# Altium integrated library Analog Devices Temperature Sensors.IntLib: 271 symbols (part 13 of 14)
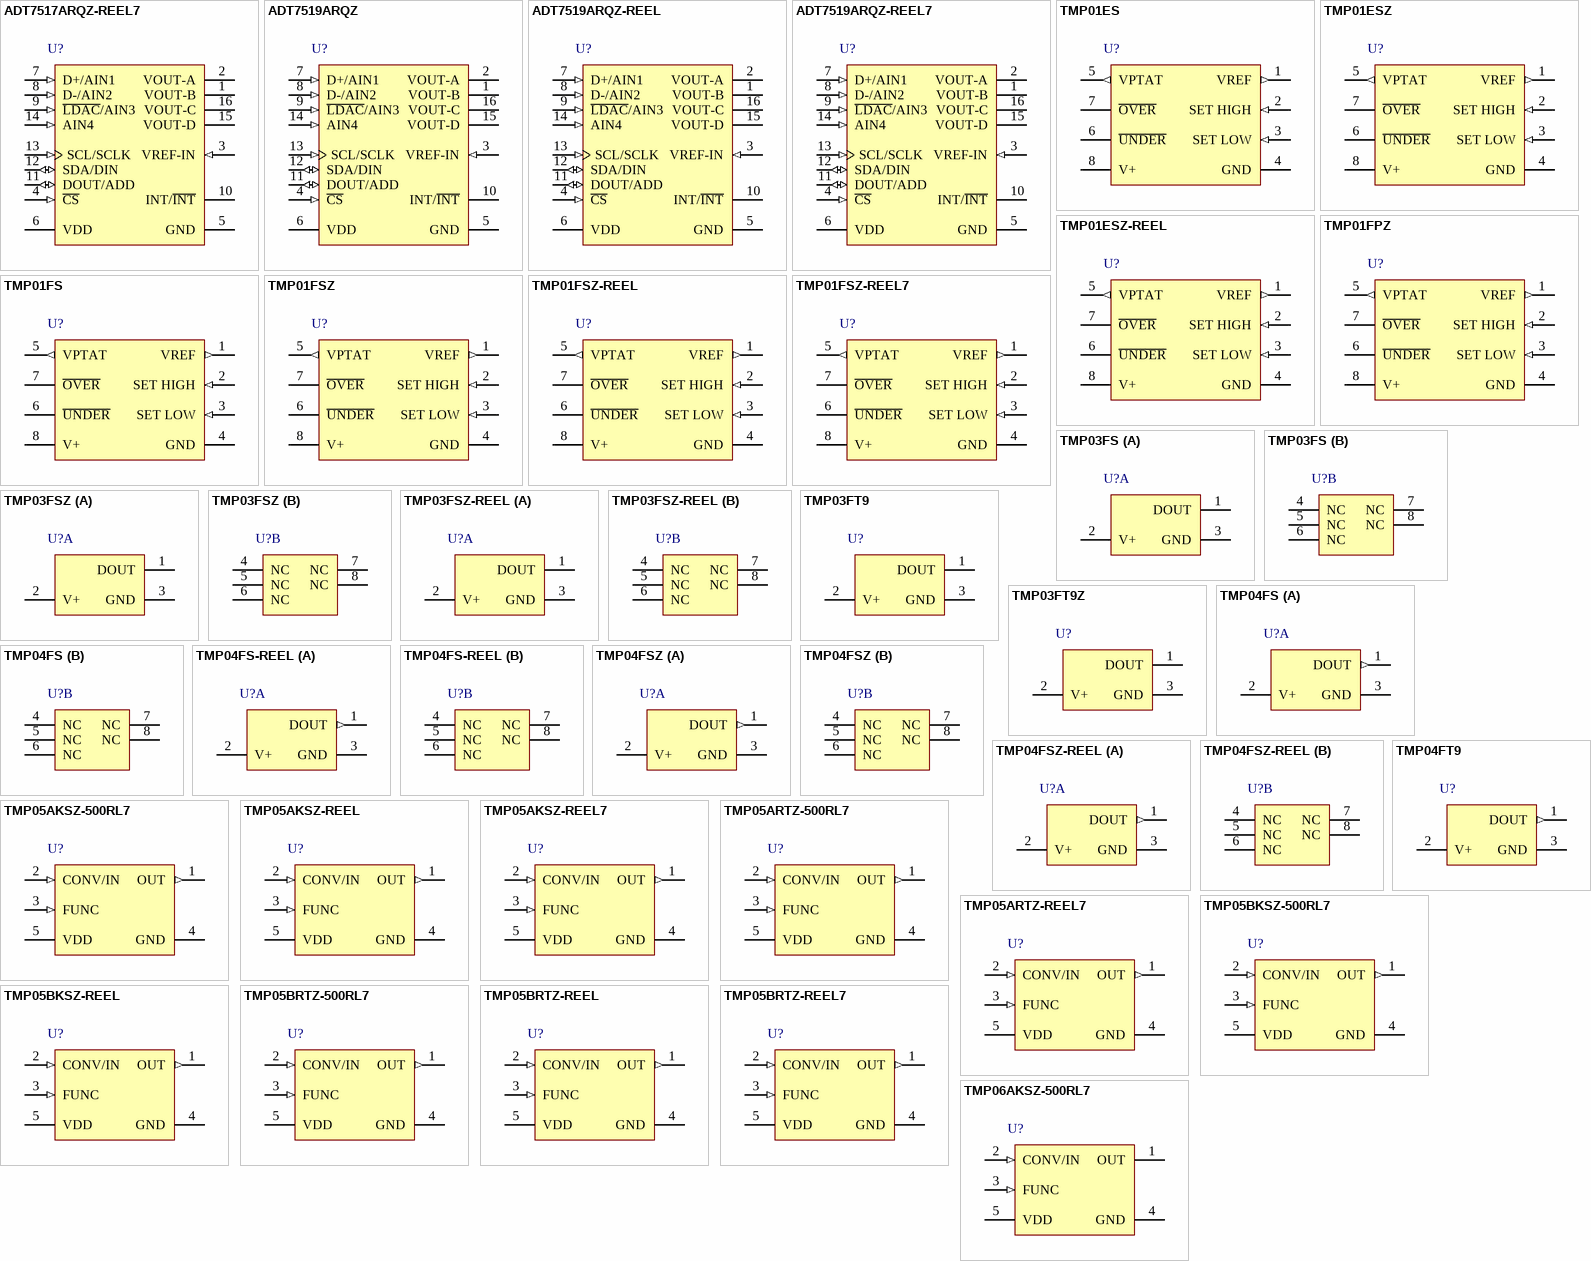
[diagram p19: symbols ADT7517ARQZ-REEL7 to TMP06AKSZ-500RL7]

## TMP04FT9
designator U?
Serial Digital Output Thermometers, 4.5 to 7 V Supply, Industrial, 3-pin TO92 (T-3), Tray; Manufacturer: Analog Devices; PartNumber: TMP04FT9; DatasheetVersion: Rev. A; PackageVersion: 042208-A, 04/2008; PackageReference: T-3; PackageDescription: 3-Pin Plastic Header-Style Package, 1.27 mm Pitch; Supplier 1: Digi-Key; Supplier Part Number 1: TMP04FT9-ND; Supplier 2: Mouser; Supplier Part Number 2: 584-TMP04FT9; Packing: Tray; Supply Voltage Range: 4.5 to 7 V; Mounting Technology: Through Hole; Code_JEDEC: TO-226-AA; ComponentLink1Description: Manufacturer URL; ComponentLink1URL: http://www.analog.com/en/index.html; ComponentLink2Description: Datasheet; ComponentLink2URL: http://www.analog.com/static/imported-files/data_sheets/TMP03_04.pdf; ComponentLink3Description: Package Specification; ComponentLink3URL: http://www.analog.com/static/imported-files/packages/PKG_PDF/TO-92(T)/T_3.pdf; ComponentLink4Description: Product URL; ComponentLink4URL: http://www.analog.com/en/mems-sensors/digital-temperature-sensors/tmp04/products/product.html
footprint ADI-T-3 (TO, Flat Index; 3 In-Line, Axial Leads; Body Dia. 5.1mm; Leads 0.48 x 0.48 mm (max))
pins: 1 DOUT (out), 2 V+ (power), 3 GND (power)

## TMP05AKSZ-500RL7
designator U?
+/-0.5 degrees C Accurate PWM Temperature Sensor, 3 to 5.5 V Supply, Industrial, 5-pin SOT23 (KS-5), Reel; Manufacturer: Analog Devices; PartNumber: TMP05AKSZ-500RL7; DatasheetVersion: Rev. C; PackageVersion: 072809-A, 07/2009; PackageReference: KS-5; PackageDescription: 5-Pin Thin Shrink Small Outline Transistor Package, Body 2 x 1.25 mm, Pitch 0.65 mm; Supplier 1: Digi-Key; Supplier Part Number 1: TMP05AKSZ-500RL7TR-ND; Supplier 2: Digi-Key; Supplier Part Number 2: TMP05AKSZ-500RL7CT-ND; Supplier 3: Digi-Key; Supplier Part Number 3: TMP05AKSZ-500RL7DKR-ND; Supplier 4: Farnell; Supplier Part Number 4: 1651315; Supplier 5: Farnell; Supplier Part Number 5: 1319536; Supplier 6: Newark; Supplier Part Number 6: 19M9012; Supplier 7: Mouser; Supplier Part Number 7: 584-TMP05AKSZ-500R7; Packing: Reel; Supply Voltage Range: 3 to 5.5 V; Mounting Technology: Surface Mount; Code_JEDEC: MO-203-AA; ComponentLink1Description: Manufacturer URL; ComponentLink1URL: http://www.analog.com/en/index.html; ComponentLink2Description: Datasheet; ComponentLink2URL: http://www.analog.com/static/imported-files/data_sheets/TMP05_06.pdf; ComponentLink3Description: Package Specification; ComponentLink3URL: http://www.analog.com/static/imported-files/packages/PKG_PDF/SC70(KS)/KS_5.pdf; ComponentLink4Description: Product URL; ComponentLink4URL: http://www.analog.com/en/mems-sensors/digital-temperature-sensors/tmp05/products/product.html
footprint ADI-KS-5_N (SOT23, 5-Leads, Body 2x1.25mm, Pitch 0.65mm, IPC Medium Density)
footprint ADI-KS-5_L (SOT23, 5-Leads, Body 2x1.25mm, Pitch 0.65mm, IPC High Density)
footprint ADI-KS-5_M (SOT23, 5-Leads, Body 2x1.25mm, Pitch 0.65mm, IPC Low Density)
pins: 1 OUT (out) "Digital Output. Pulse-width modulated (PWM) output gives a square wave whose ratio of high-to-low period is proportional to temperature.", 2 CONV/IN (in) "Digital Input. In continuously converting and one shot operating modes, a high, low, or float input determines the temperature measurement rate. In daisy-chain operating mode, this pin is the input pin for the PWM signal (See Datasheet)", 3 FUNC (in) "Digital Input. A high, low, or float input on this pin gives three different modes of operation. For details, see the Operating Modes section.", 4 GND (power) "Analog and Digital Ground.", 5 VDD (power) "Positive Supply Voltage, 3.0 V to 5.5 V. Using a decoupling capacitor of 0.1 µF as close as possible to this pin is strongly recommended."

## TMP05AKSZ-REEL
designator U?
+/-0.5 degrees C Accurate PWM Temperature Sensor, 3 to 5.5 V Supply, Industrial, 5-pin SOT23 (KS-5), Reel; Manufacturer: Analog Devices; PartNumber: TMP05AKSZ-REEL; DatasheetVersion: Rev. C; PackageVersion: 072809-A, 07/2009; PackageReference: KS-5; PackageDescription: 5-Pin Thin Shrink Small Outline Transistor Package, Body 2 x 1.25 mm, Pitch 0.65 mm; Supplier 1: Digi-Key; Supplier Part Number 1: TMP05AKSZ-REEL-ND; Supplier 2: Mouser; Supplier Part Number 2: 584-TMP05AKSZ-R; Packing: Reel; Supply Voltage Range: 3 to 5.5 V; Mounting Technology: Surface Mount; Code_JEDEC: MO-203-AA; ComponentLink1Description: Manufacturer URL; ComponentLink1URL: http://www.analog.com/en/index.html; ComponentLink2Description: Datasheet; ComponentLink2URL: http://www.analog.com/static/imported-files/data_sheets/TMP05_06.pdf; ComponentLink3Description: Package Specification; ComponentLink3URL: http://www.analog.com/static/imported-files/packages/PKG_PDF/SC70(KS)/KS_5.pdf; ComponentLink4Description: Product URL; ComponentLink4URL: http://www.analog.com/en/mems-sensors/digital-temperature-sensors/tmp05/products/product.html
footprint ADI-KS-5_N (SOT23, 5-Leads, Body 2x1.25mm, Pitch 0.65mm, IPC Medium Density)
footprint ADI-KS-5_L (SOT23, 5-Leads, Body 2x1.25mm, Pitch 0.65mm, IPC High Density)
footprint ADI-KS-5_M (SOT23, 5-Leads, Body 2x1.25mm, Pitch 0.65mm, IPC Low Density)
pins: 1 OUT (out) "Digital Output. Pulse-width modulated (PWM) output gives a square wave whose ratio of high-to-low period is proportional to temperature.", 2 CONV/IN (in) "Digital Input. In continuously converting and one shot operating modes, a high, low, or float input determines the temperature measurement rate. In daisy-chain operating mode, this pin is the input pin for the PWM signal (See Datasheet)", 3 FUNC (in) "Digital Input. A high, low, or float input on this pin gives three different modes of operation. For details, see the Operating Modes section.", 4 GND (power) "Analog and Digital Ground.", 5 VDD (power) "Positive Supply Voltage, 3.0 V to 5.5 V. Using a decoupling capacitor of 0.1 µF as close as possible to this pin is strongly recommended."

## TMP05AKSZ-REEL7
designator U?
+/-0.5 degrees C Accurate PWM Temperature Sensor, 3 to 5.5 V Supply, Industrial, 5-pin SOT23 (KS-5), Reel; Manufacturer: Analog Devices; PartNumber: TMP05AKSZ-REEL7; DatasheetVersion: Rev. C; PackageVersion: 072809-A, 07/2009; PackageReference: KS-5; PackageDescription: 5-Pin Thin Shrink Small Outline Transistor Package, Body 2 x 1.25 mm, Pitch 0.65 mm; Supplier 1: Digi-Key; Supplier Part Number 1: TMP05AKSZ-REEL7TR-ND; Supplier 2: Digi-Key; Supplier Part Number 2: TMP05AKSZ-REEL7CT-ND; Supplier 3: Digi-Key; Supplier Part Number 3: TMP05AKSZ-REEL7DKR-ND; Supplier 4: Mouser; Supplier Part Number 4: 584-TMP05AKSZ-R7; Packing: Reel; Supply Voltage Range: 3 to 5.5 V; Mounting Technology: Surface Mount; Code_JEDEC: MO-203-AA; ComponentLink1Description: Manufacturer URL; ComponentLink1URL: http://www.analog.com/en/index.html; ComponentLink2Description: Datasheet; ComponentLink2URL: http://www.analog.com/static/imported-files/data_sheets/TMP05_06.pdf; ComponentLink3Description: Package Specification; ComponentLink3URL: http://www.analog.com/static/imported-files/packages/PKG_PDF/SC70(KS)/KS_5.pdf; ComponentLink4Description: Product URL; ComponentLink4URL: http://www.analog.com/en/mems-sensors/digital-temperature-sensors/tmp05/products/product.html
footprint ADI-KS-5_N (SOT23, 5-Leads, Body 2x1.25mm, Pitch 0.65mm, IPC Medium Density)
footprint ADI-KS-5_L (SOT23, 5-Leads, Body 2x1.25mm, Pitch 0.65mm, IPC High Density)
footprint ADI-KS-5_M (SOT23, 5-Leads, Body 2x1.25mm, Pitch 0.65mm, IPC Low Density)
pins: 1 OUT (out) "Digital Output. Pulse-width modulated (PWM) output gives a square wave whose ratio of high-to-low period is proportional to temperature.", 2 CONV/IN (in) "Digital Input. In continuously converting and one shot operating modes, a high, low, or float input determines the temperature measurement rate. In daisy-chain operating mode, this pin is the input pin for the PWM signal (See Datasheet)", 3 FUNC (in) "Digital Input. A high, low, or float input on this pin gives three different modes of operation. For details, see the Operating Modes section.", 4 GND (power) "Analog and Digital Ground.", 5 VDD (power) "Positive Supply Voltage, 3.0 V to 5.5 V. Using a decoupling capacitor of 0.1 µF as close as possible to this pin is strongly recommended."

## TMP05ARTZ-500RL7
designator U?
+/-0.5 degrees C Accurate PWM Temperature Sensor, 3 to 5.5 V Supply, Industrial, 5-pin SOT23 (RJ-5), Reel; Manufacturer: Analog Devices; PartNumber: TMP05ARTZ-500RL7; DatasheetVersion: Rev. C; PackageVersion: 121608-A , 12/2008; PackageReference: RJ-5; PackageDescription: 5-Pin Small Outline Transistor Package, Body 2.9 x 1.6 mm, Pitch 0.95 mm; Supplier 1: Digi-Key; Supplier Part Number 1: TMP05ARTZ-500RL7TR-ND; Supplier 2: Digi-Key; Supplier Part Number 2: TMP05ARTZ-500RL7CT-ND; Supplier 3: Digi-Key; Supplier Part Number 3: TMP05ARTZ-500RL7DKR-ND; Supplier 4: Farnell; Supplier Part Number 4: 2377120; Supplier 5: Newark; Supplier Part Number 5: 23X9247; Supplier 6: Newark; Supplier Part Number 6: 59K9147; Supplier 7: Mouser; Supplier Part Number 7: 584-TMP05ARTZ-500R7; Packing: Reel; Supply Voltage Range: 3 to 5.5 V; Mounting Technology: Surface Mount; Code_JEDEC: MO-178-AA; ComponentLink1Description: Manufacturer URL; ComponentLink1URL: http://www.analog.com/en/index.html; ComponentLink2Description: Datasheet; ComponentLink2URL: http://www.analog.com/static/imported-files/data_sheets/TMP05_06.pdf; ComponentLink3Description: Package Specification; ComponentLink3URL: http://www.analog.com/static/imported-files/packages/PKG_PDF/SOT-23(RJ)/RJ_5.pdf; ComponentLink4Description: Product URL; ComponentLink4URL: http://www.analog.com/en/mems-sensors/digital-temperature-sensors/tmp05/products/product.html
footprint ADI-RJ-5_N (SOT-23, 5-Leads, Body 2.9x1.6mm, Pitch 0.95mm, IPC Medium Density)
footprint ADI-RJ-5_L (SOT-23, 5-Leads, Body 2.9x1.6mm, Pitch 0.95mm, IPC High Density)
footprint ADI-RJ-5_M (SOT-23, 5-Leads, Body 2.9x1.6mm, Pitch 0.95mm, IPC Low Density)
pins: 1 OUT (out) "Digital Output. Pulse-width modulated (PWM) output gives a square wave whose ratio of high-to-low period is proportional to temperature.", 2 CONV/IN (in) "Digital Input. In continuously converting and one shot operating modes, a high, low, or float input determines the temperature measurement rate. In daisy-chain operating mode, this pin is the input pin for the PWM signal (See Datasheet)", 3 FUNC (in) "Digital Input. A high, low, or float input on this pin gives three different modes of operation. For details, see the Operating Modes section.", 4 GND (power) "Analog and Digital Ground.", 5 VDD (power) "Positive Supply Voltage, 3.0 V to 5.5 V. Using a decoupling capacitor of 0.1 µF as close as possible to this pin is strongly recommended."

## TMP05ARTZ-REEL7
designator U?
+/-0.5 degrees C Accurate PWM Temperature Sensor, 3 to 5.5 V Supply, Industrial, 5-pin SOT23 (RJ-5), Reel; Manufacturer: Analog Devices; PartNumber: TMP05ARTZ-REEL7; DatasheetVersion: Rev. C; PackageVersion: 121608-A , 12/2008; PackageReference: RJ-5; PackageDescription: 5-Pin Small Outline Transistor Package, Body 2.9 x 1.6 mm, Pitch 0.95 mm; Supplier 1: Digi-Key; Supplier Part Number 1: TMP05ARTZ-REEL7TR-ND; Supplier 2: Digi-Key; Supplier Part Number 2: TMP05ARTZ-REEL7CT-ND; Supplier 3: Digi-Key; Supplier Part Number 3: TMP05ARTZ-REEL7DKR-ND; Supplier 4: Farnell; Supplier Part Number 4: 1536073; Supplier 5: Mouser; Supplier Part Number 5: 584-TMP05ARTZ-R7; Packing: Reel; Supply Voltage Range: 3 to 5.5 V; Mounting Technology: Surface Mount; Code_JEDEC: MO-178-AA; ComponentLink1Description: Manufacturer URL; ComponentLink1URL: http://www.analog.com/en/index.html; ComponentLink2Description: Datasheet; ComponentLink2URL: http://www.analog.com/static/imported-files/data_sheets/TMP05_06.pdf; ComponentLink3Description: Package Specification; ComponentLink3URL: http://www.analog.com/static/imported-files/packages/PKG_PDF/SOT-23(RJ)/RJ_5.pdf; ComponentLink4Description: Product URL; ComponentLink4URL: http://www.analog.com/en/mems-sensors/digital-temperature-sensors/tmp05/products/product.html
footprint ADI-RJ-5_N (SOT-23, 5-Leads, Body 2.9x1.6mm, Pitch 0.95mm, IPC Medium Density)
footprint ADI-RJ-5_L (SOT-23, 5-Leads, Body 2.9x1.6mm, Pitch 0.95mm, IPC High Density)
footprint ADI-RJ-5_M (SOT-23, 5-Leads, Body 2.9x1.6mm, Pitch 0.95mm, IPC Low Density)
pins: 1 OUT (out) "Digital Output. Pulse-width modulated (PWM) output gives a square wave whose ratio of high-to-low period is proportional to temperature.", 2 CONV/IN (in) "Digital Input. In continuously converting and one shot operating modes, a high, low, or float input determines the temperature measurement rate. In daisy-chain operating mode, this pin is the input pin for the PWM signal (See Datasheet)", 3 FUNC (in) "Digital Input. A high, low, or float input on this pin gives three different modes of operation. For details, see the Operating Modes section.", 4 GND (power) "Analog and Digital Ground.", 5 VDD (power) "Positive Supply Voltage, 3.0 V to 5.5 V. Using a decoupling capacitor of 0.1 µF as close as possible to this pin is strongly recommended."

## TMP05BKSZ-500RL7
designator U?
+/-0.5 degrees C Accurate PWM Temperature Sensor, 3 to 5.5 V Supply, Industrial, 5-pin SOT23 (KS-5), Reel; Manufacturer: Analog Devices; PartNumber: TMP05BKSZ-500RL7; DatasheetVersion: Rev. C; PackageVersion: 072809-A, 07/2009; PackageReference: KS-5; PackageDescription: 5-Pin Thin Shrink Small Outline Transistor Package, Body 2 x 1.25 mm, Pitch 0.65 mm; Supplier 1: Digi-Key; Supplier Part Number 1: TMP05BKSZ-500RL7TR-ND; Supplier 2: Digi-Key; Supplier Part Number 2: TMP05BKSZ-500RL7CT-ND; Supplier 3: Digi-Key; Supplier Part Number 3: TMP05BKSZ-500RL7DKR-ND; Supplier 4: Farnell; Supplier Part Number 4: 1571459; Supplier 5: Newark; Supplier Part Number 5: 59K9153; Supplier 6: Mouser; Supplier Part Number 6: 584-TMP05BKSZ-500R7; Packing: Reel; Supply Voltage Range: 3 to 5.5 V; Mounting Technology: Surface Mount; Code_JEDEC: MO-203-AA; ComponentLink1Description: Manufacturer URL; ComponentLink1URL: http://www.analog.com/en/index.html; ComponentLink2Description: Datasheet; ComponentLink2URL: http://www.analog.com/static/imported-files/data_sheets/TMP05_06.pdf; ComponentLink3Description: Package Specification; ComponentLink3URL: http://www.analog.com/static/imported-files/packages/PKG_PDF/SC70(KS)/KS_5.pdf; ComponentLink4Description: Product URL; ComponentLink4URL: http://www.analog.com/en/mems-sensors/digital-temperature-sensors/tmp05/products/product.html
footprint ADI-KS-5_N (SOT23, 5-Leads, Body 2x1.25mm, Pitch 0.65mm, IPC Medium Density)
footprint ADI-KS-5_L (SOT23, 5-Leads, Body 2x1.25mm, Pitch 0.65mm, IPC High Density)
footprint ADI-KS-5_M (SOT23, 5-Leads, Body 2x1.25mm, Pitch 0.65mm, IPC Low Density)
pins: 1 OUT (out) "Digital Output. Pulse-width modulated (PWM) output gives a square wave whose ratio of high-to-low period is proportional to temperature.", 2 CONV/IN (in) "Digital Input. In continuously converting and one shot operating modes, a high, low, or float input determines the temperature measurement rate. In daisy-chain operating mode, this pin is the input pin for the PWM signal (See Datasheet)", 3 FUNC (in) "Digital Input. A high, low, or float input on this pin gives three different modes of operation. For details, see the Operating Modes section.", 4 GND (power) "Analog and Digital Ground.", 5 VDD (power) "Positive Supply Voltage, 3.0 V to 5.5 V. Using a decoupling capacitor of 0.1 µF as close as possible to this pin is strongly recommended."

## TMP05BKSZ-REEL
designator U?
+/-0.5 degrees C Accurate PWM Temperature Sensor, 3 to 5.5 V Supply, Industrial, 5-pin SOT23 (KS-5), Reel; Manufacturer: Analog Devices; PartNumber: TMP05BKSZ-REEL; DatasheetVersion: Rev. C; PackageVersion: 072809-A, 07/2009; PackageReference: KS-5; PackageDescription: 5-Pin Thin Shrink Small Outline Transistor Package, Body 2 x 1.25 mm, Pitch 0.65 mm; Supplier 1: Digi-Key; Supplier Part Number 1: TMP05BKSZ-REEL-ND; Supplier 2: Mouser; Supplier Part Number 2: 584-TMP05BKSZ-R; Packing: Reel; Supply Voltage Range: 3 to 5.5 V; Mounting Technology: Surface Mount; Code_JEDEC: MO-203-AA; ComponentLink1Description: Manufacturer URL; ComponentLink1URL: http://www.analog.com/en/index.html; ComponentLink2Description: Datasheet; ComponentLink2URL: http://www.analog.com/static/imported-files/data_sheets/TMP05_06.pdf; ComponentLink3Description: Package Specification; ComponentLink3URL: http://www.analog.com/static/imported-files/packages/PKG_PDF/SC70(KS)/KS_5.pdf; ComponentLink4Description: Product URL; ComponentLink4URL: http://www.analog.com/en/mems-sensors/digital-temperature-sensors/tmp05/products/product.html
footprint ADI-KS-5_N (SOT23, 5-Leads, Body 2x1.25mm, Pitch 0.65mm, IPC Medium Density)
footprint ADI-KS-5_L (SOT23, 5-Leads, Body 2x1.25mm, Pitch 0.65mm, IPC High Density)
footprint ADI-KS-5_M (SOT23, 5-Leads, Body 2x1.25mm, Pitch 0.65mm, IPC Low Density)
pins: 1 OUT (out) "Digital Output. Pulse-width modulated (PWM) output gives a square wave whose ratio of high-to-low period is proportional to temperature.", 2 CONV/IN (in) "Digital Input. In continuously converting and one shot operating modes, a high, low, or float input determines the temperature measurement rate. In daisy-chain operating mode, this pin is the input pin for the PWM signal (See Datasheet)", 3 FUNC (in) "Digital Input. A high, low, or float input on this pin gives three different modes of operation. For details, see the Operating Modes section.", 4 GND (power) "Analog and Digital Ground.", 5 VDD (power) "Positive Supply Voltage, 3.0 V to 5.5 V. Using a decoupling capacitor of 0.1 µF as close as possible to this pin is strongly recommended."

## TMP05BRTZ-500RL7
designator U?
+/-0.5 degrees C Accurate PWM Temperature Sensor, 3 to 5.5 V Supply, Industrial, 5-pin SOT23 (RJ-5), Reel; Manufacturer: Analog Devices; PartNumber: TMP05BRTZ-500RL7; DatasheetVersion: Rev. C; PackageVersion: 121608-A , 12/2008; PackageReference: RJ-5; PackageDescription: 5-Pin Small Outline Transistor Package, Body 2.9 x 1.6 mm, Pitch 0.95 mm; Supplier 1: Digi-Key; Supplier Part Number 1: TMP05BRTZ-500RL7TR-ND; Supplier 2: Digi-Key; Supplier Part Number 2: TMP05BRTZ-500RL7CT-ND; Supplier 3: Digi-Key; Supplier Part Number 3: TMP05BRTZ-500RL7DKR-ND; Supplier 4: Farnell; Supplier Part Number 4: 1651317; Supplier 5: Farnell; Supplier Part Number 5: 1319537; Supplier 6: Newark; Supplier Part Number 6: 19M9013; Supplier 7: Newark; Supplier Part Number 7: 59K9159; Supplier 8: Mouser; Supplier Part Number 8: 584-TMP05BRTZ-500R7; Packing: Reel; Supply Voltage Range: 3 to 5.5 V; Mounting Technology: Surface Mount; Code_JEDEC: MO-178-AA; ComponentLink1Description: Manufacturer URL; ComponentLink1URL: http://www.analog.com/en/index.html; ComponentLink2Description: Datasheet; ComponentLink2URL: http://www.analog.com/static/imported-files/data_sheets/TMP05_06.pdf; ComponentLink3Description: Package Specification; ComponentLink3URL: http://www.analog.com/static/imported-files/packages/PKG_PDF/SOT-23(RJ)/RJ_5.pdf; ComponentLink4Description: Product URL; ComponentLink4URL: http://www.analog.com/en/mems-sensors/digital-temperature-sensors/tmp05/products/product.html
footprint ADI-RJ-5_N (SOT-23, 5-Leads, Body 2.9x1.6mm, Pitch 0.95mm, IPC Medium Density)
footprint ADI-RJ-5_L (SOT-23, 5-Leads, Body 2.9x1.6mm, Pitch 0.95mm, IPC High Density)
footprint ADI-RJ-5_M (SOT-23, 5-Leads, Body 2.9x1.6mm, Pitch 0.95mm, IPC Low Density)
pins: 1 OUT (out) "Digital Output. Pulse-width modulated (PWM) output gives a square wave whose ratio of high-to-low period is proportional to temperature.", 2 CONV/IN (in) "Digital Input. In continuously converting and one shot operating modes, a high, low, or float input determines the temperature measurement rate. In daisy-chain operating mode, this pin is the input pin for the PWM signal (See Datasheet)", 3 FUNC (in) "Digital Input. A high, low, or float input on this pin gives three different modes of operation. For details, see the Operating Modes section.", 4 GND (power) "Analog and Digital Ground.", 5 VDD (power) "Positive Supply Voltage, 3.0 V to 5.5 V. Using a decoupling capacitor of 0.1 µF as close as possible to this pin is strongly recommended."

## TMP05BRTZ-REEL
designator U?
+/-0.5 degrees C Accurate PWM Temperature Sensor, 3 to 5.5 V Supply, Industrial, 5-pin SOT23 (RJ-5), Reel; Manufacturer: Analog Devices; PartNumber: TMP05BRTZ-REEL; DatasheetVersion: Rev. C; PackageVersion: 121608-A , 12/2008; PackageReference: RJ-5; PackageDescription: 5-Pin Small Outline Transistor Package, Body 2.9 x 1.6 mm, Pitch 0.95 mm; Supplier 1: Digi-Key; Supplier Part Number 1: TMP05BRTZ-REEL-ND; Supplier 2: Mouser; Supplier Part Number 2: 584-TMP05BRTZ-R; Packing: Reel; Supply Voltage Range: 3 to 5.5 V; Mounting Technology: Surface Mount; Code_JEDEC: MO-178-AA; ComponentLink1Description: Manufacturer URL; ComponentLink1URL: http://www.analog.com/en/index.html; ComponentLink2Description: Datasheet; ComponentLink2URL: http://www.analog.com/static/imported-files/data_sheets/TMP05_06.pdf; ComponentLink3Description: Package Specification; ComponentLink3URL: http://www.analog.com/static/imported-files/packages/PKG_PDF/SOT-23(RJ)/RJ_5.pdf; ComponentLink4Description: Product URL; ComponentLink4URL: http://www.analog.com/en/mems-sensors/digital-temperature-sensors/tmp05/products/product.html
footprint ADI-RJ-5_N (SOT-23, 5-Leads, Body 2.9x1.6mm, Pitch 0.95mm, IPC Medium Density)
footprint ADI-RJ-5_L (SOT-23, 5-Leads, Body 2.9x1.6mm, Pitch 0.95mm, IPC High Density)
footprint ADI-RJ-5_M (SOT-23, 5-Leads, Body 2.9x1.6mm, Pitch 0.95mm, IPC Low Density)
pins: 1 OUT (out) "Digital Output. Pulse-width modulated (PWM) output gives a square wave whose ratio of high-to-low period is proportional to temperature.", 2 CONV/IN (in) "Digital Input. In continuously converting and one shot operating modes, a high, low, or float input determines the temperature measurement rate. In daisy-chain operating mode, this pin is the input pin for the PWM signal (See Datasheet)", 3 FUNC (in) "Digital Input. A high, low, or float input on this pin gives three different modes of operation. For details, see the Operating Modes section.", 4 GND (power) "Analog and Digital Ground.", 5 VDD (power) "Positive Supply Voltage, 3.0 V to 5.5 V. Using a decoupling capacitor of 0.1 µF as close as possible to this pin is strongly recommended."

## TMP05BRTZ-REEL7
designator U?
+/-0.5 degrees C Accurate PWM Temperature Sensor, 3 to 5.5 V Supply, Industrial, 5-pin SOT23 (RJ-5), Reel; Manufacturer: Analog Devices; PartNumber: TMP05BRTZ-REEL7; DatasheetVersion: Rev. C; PackageVersion: 121608-A , 12/2008; PackageReference: RJ-5; PackageDescription: 5-Pin Small Outline Transistor Package, Body 2.9 x 1.6 mm, Pitch 0.95 mm; Supplier 1: Digi-Key; Supplier Part Number 1: TMP05BRTZ-REEL7TR-ND; Supplier 2: Digi-Key; Supplier Part Number 2: TMP05BRTZ-REEL7CT-ND; Supplier 3: Digi-Key; Supplier Part Number 3: TMP05BRTZ-REEL7DKR-ND; Supplier 4: Newark; Supplier Part Number 4: 59K9158; Supplier 5: Mouser; Supplier Part Number 5: 584-TMP05BRTZ-R7; Packing: Reel; Supply Voltage Range: 3 to 5.5 V; Mounting Technology: Surface Mount; Code_JEDEC: MO-178-AA; ComponentLink1Description: Manufacturer URL; ComponentLink1URL: http://www.analog.com/en/index.html; ComponentLink2Description: Datasheet; ComponentLink2URL: http://www.analog.com/static/imported-files/data_sheets/TMP05_06.pdf; ComponentLink3Description: Package Specification; ComponentLink3URL: http://www.analog.com/static/imported-files/packages/PKG_PDF/SOT-23(RJ)/RJ_5.pdf; ComponentLink4Description: Product URL; ComponentLink4URL: http://www.analog.com/en/mems-sensors/digital-temperature-sensors/tmp05/products/product.html
footprint ADI-RJ-5_N (SOT-23, 5-Leads, Body 2.9x1.6mm, Pitch 0.95mm, IPC Medium Density)
footprint ADI-RJ-5_L (SOT-23, 5-Leads, Body 2.9x1.6mm, Pitch 0.95mm, IPC High Density)
footprint ADI-RJ-5_M (SOT-23, 5-Leads, Body 2.9x1.6mm, Pitch 0.95mm, IPC Low Density)
pins: 1 OUT (out) "Digital Output. Pulse-width modulated (PWM) output gives a square wave whose ratio of high-to-low period is proportional to temperature.", 2 CONV/IN (in) "Digital Input. In continuously converting and one shot operating modes, a high, low, or float input determines the temperature measurement rate. In daisy-chain operating mode, this pin is the input pin for the PWM signal (See Datasheet)", 3 FUNC (in) "Digital Input. A high, low, or float input on this pin gives three different modes of operation. For details, see the Operating Modes section.", 4 GND (power) "Analog and Digital Ground.", 5 VDD (power) "Positive Supply Voltage, 3.0 V to 5.5 V. Using a decoupling capacitor of 0.1 µF as close as possible to this pin is strongly recommended."

## TMP06AKSZ-500RL7
designator U?
+/-0.5 degrees C Accurate PWM Temperature Sensor, 3 to 5.5 V Supply, Industrial, 5-pin SOT23 (KS-5), Reel; Manufacturer: Analog Devices; PartNumber: TMP06AKSZ-500RL7; DatasheetVersion: Rev. C; PackageVersion: 072809-A, 07/2009; PackageReference: KS-5; PackageDescription: 5-Pin Thin Shrink Small Outline Transistor Package, Body 2 x 1.25 mm, Pitch 0.65 mm; Supplier 1: Digi-Key; Supplier Part Number 1: TMP06AKSZ-500RL7TR-ND; Supplier 2: Digi-Key; Supplier Part Number 2: TMP06AKSZ-500RL7CT-ND; Supplier 3: Digi-Key; Supplier Part Number 3: TMP06AKSZ-500RL7DKR-ND; Supplier 4: Newark; Supplier Part Number 4: 59K9165; Supplier 5: Mouser; Supplier Part Number 5: 584-TMP06AKSZ-500R7; Packing: Reel; Supply Voltage Range: 3 to 5.5 V; Mounting Technology: Surface Mount; Code_JEDEC: MO-203-AA; ComponentLink1Description: Manufacturer URL; ComponentLink1URL: http://www.analog.com/en/index.html; ComponentLink2Description: Datasheet; ComponentLink2URL: http://www.analog.com/static/imported-files/data_sheets/TMP05_06.pdf; ComponentLink3Description: Package Specification; ComponentLink3URL: http://www.analog.com/static/imported-files/packages/PKG_PDF/SC70(KS)/KS_5.pdf; ComponentLink4Description: Product URL; ComponentLink4URL: http://www.analog.com/en/mems-sensors/digital-temperature-sensors/tmp06/products/product.html
footprint ADI-KS-5_N (SOT23, 5-Leads, Body 2x1.25mm, Pitch 0.65mm, IPC Medium Density)
footprint ADI-KS-5_L (SOT23, 5-Leads, Body 2x1.25mm, Pitch 0.65mm, IPC High Density)
footprint ADI-KS-5_M (SOT23, 5-Leads, Body 2x1.25mm, Pitch 0.65mm, IPC Low Density)
pins: 1 OUT (oc) "Digital Output. Pulse-width modulated (PWM) output gives a square wave whose ratio of high-to-low period is proportional to temperature.", 2 CONV/IN (in) "Digital Input. In continuously converting and one shot operating modes, a high, low, or float input determines the temperature measurement rate. In daisy-chain operating mode, this pin is the input pin for the PWM signal (See Datasheet)", 3 FUNC (in) "Digital Input. A high, low, or float input on this pin gives three different modes of operation. For details, see the Operating Modes section.", 4 GND (power) "Analog and Digital Ground.", 5 VDD (power) "Positive Supply Voltage, 3.0 V to 5.5 V. Using a decoupling capacitor of 0.1 µF as close as possible to this pin is strongly recommended."

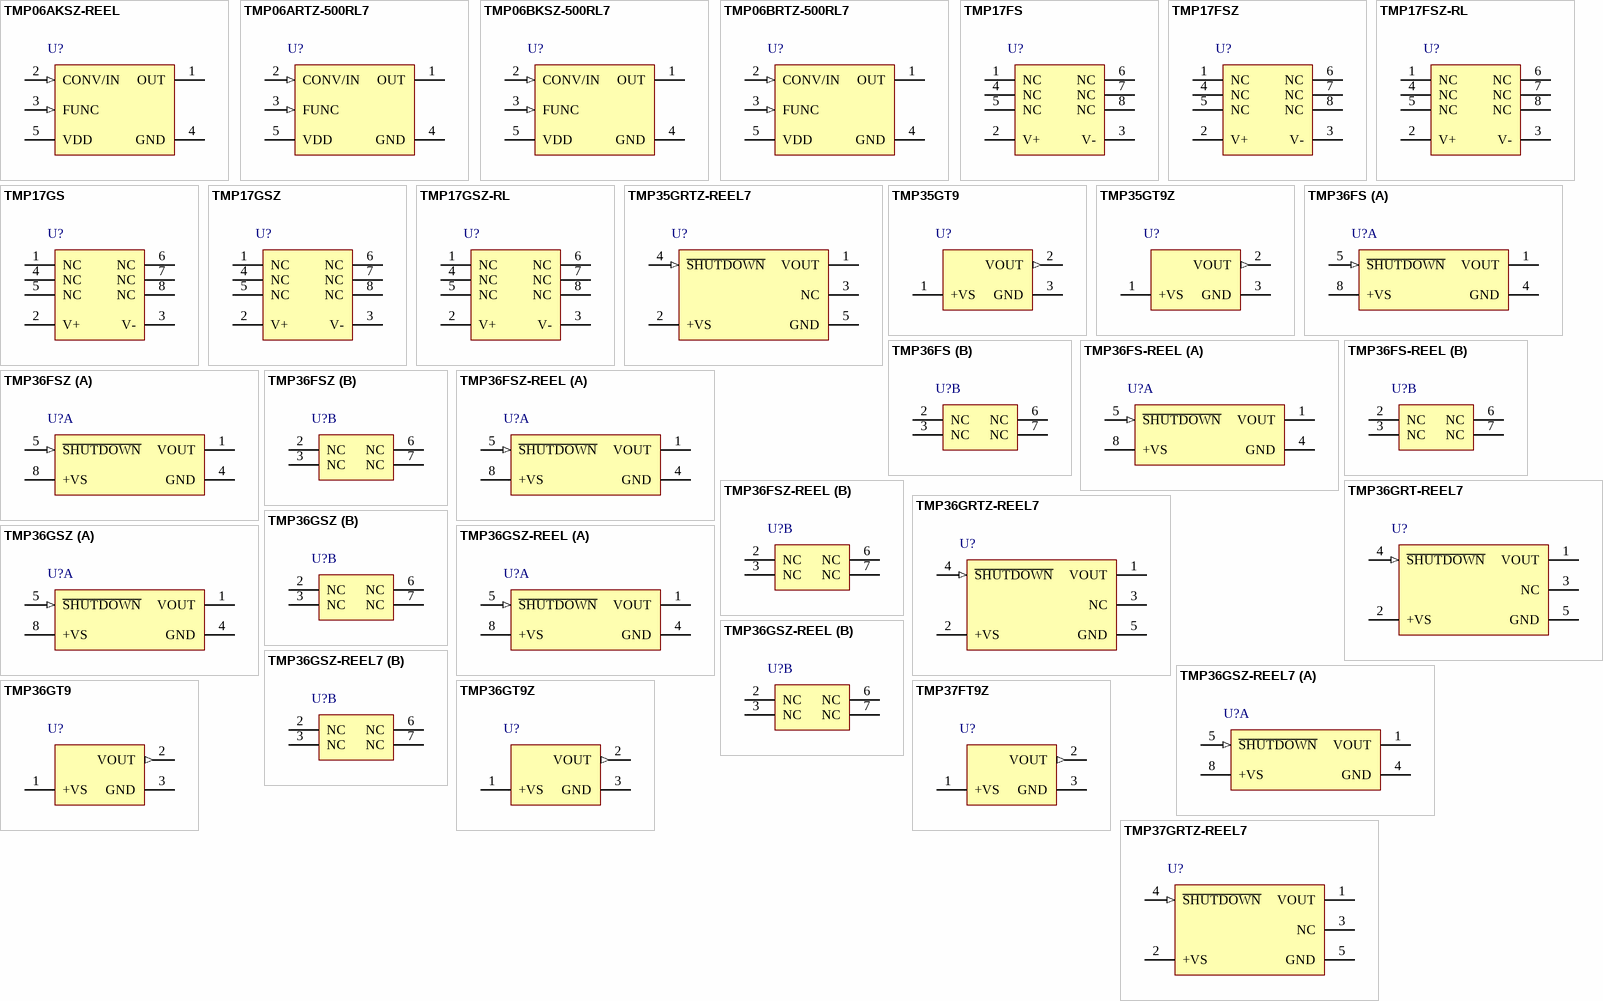
[diagram p7: symbols TMP06AKSZ-REEL to TMP37GRTZ-REEL7]

## TMP06AKSZ-REEL
designator U?
+/-0.5 degrees C Accurate PWM Temperature Sensor, 3 to 5.5 V Supply, Industrial, 5-pin SOT23 (KS-5), Reel; Manufacturer: Analog Devices; PartNumber: TMP06AKSZ-REEL; DatasheetVersion: Rev. C; PackageVersion: 072809-A, 07/2009; PackageReference: KS-5; PackageDescription: 5-Pin Thin Shrink Small Outline Transistor Package, Body 2 x 1.25 mm, Pitch 0.65 mm; Supplier 1: Digi-Key; Supplier Part Number 1: TMP06AKSZ-REEL-ND; Supplier 2: Newark; Supplier Part Number 2: 59K9163; Supplier 3: Mouser; Supplier Part Number 3: 584-TMP06AKSZ-R; Packing: Reel; Supply Voltage Range: 3 to 5.5 V; Mounting Technology: Surface Mount; Code_JEDEC: MO-203-AA; ComponentLink1Description: Manufacturer URL; ComponentLink1URL: http://www.analog.com/en/index.html; ComponentLink2Description: Datasheet; ComponentLink2URL: http://www.analog.com/static/imported-files/data_sheets/TMP05_06.pdf; ComponentLink3Description: Package Specification; ComponentLink3URL: http://www.analog.com/static/imported-files/packages/PKG_PDF/SC70(KS)/KS_5.pdf; ComponentLink4Description: Product URL; ComponentLink4URL: http://www.analog.com/en/mems-sensors/digital-temperature-sensors/tmp06/products/product.html
footprint ADI-KS-5_N (SOT23, 5-Leads, Body 2x1.25mm, Pitch 0.65mm, IPC Medium Density)
footprint ADI-KS-5_L (SOT23, 5-Leads, Body 2x1.25mm, Pitch 0.65mm, IPC High Density)
footprint ADI-KS-5_M (SOT23, 5-Leads, Body 2x1.25mm, Pitch 0.65mm, IPC Low Density)
pins: 1 OUT (oc) "Digital Output. Pulse-width modulated (PWM) output gives a square wave whose ratio of high-to-low period is proportional to temperature.", 2 CONV/IN (in) "Digital Input. In continuously converting and one shot operating modes, a high, low, or float input determines the temperature measurement rate. In daisy-chain operating mode, this pin is the input pin for the PWM signal (See Datasheet)", 3 FUNC (in) "Digital Input. A high, low, or float input on this pin gives three different modes of operation. For details, see the Operating Modes section.", 4 GND (power) "Analog and Digital Ground.", 5 VDD (power) "Positive Supply Voltage, 3.0 V to 5.5 V. Using a decoupling capacitor of 0.1 µF as close as possible to this pin is strongly recommended."

## TMP06ARTZ-500RL7
designator U?
+/-0.5 degrees C Accurate PWM Temperature Sensor, 3 to 5.5 V Supply, Industrial, 5-pin SOT23 (RJ-5), Reel; Manufacturer: Analog Devices; PartNumber: TMP06ARTZ-500RL7; DatasheetVersion: Rev. C; PackageVersion: 121608-A , 12/2008; PackageReference: RJ-5; PackageDescription: 5-Pin Small Outline Transistor Package, Body 2.9 x 1.6 mm, Pitch 0.95 mm; Supplier 1: Digi-Key; Supplier Part Number 1: TMP06ARTZ-500RL7TR-ND; Supplier 2: Digi-Key; Supplier Part Number 2: TMP06ARTZ-500RL7CT-ND; Supplier 3: Digi-Key; Supplier Part Number 3: TMP06ARTZ-500RL7DKR-ND; Supplier 4: Mouser; Supplier Part Number 4: 584-TMP06ARTZ-500R7; Packing: Reel; Supply Voltage Range: 3 to 5.5 V; Mounting Technology: Surface Mount; Code_JEDEC: MO-178-AA; ComponentLink1Description: Manufacturer URL; ComponentLink1URL: http://www.analog.com/en/index.html; ComponentLink2Description: Datasheet; ComponentLink2URL: http://www.analog.com/static/imported-files/data_sheets/TMP05_06.pdf; ComponentLink3Description: Package Specification; ComponentLink3URL: http://www.analog.com/static/imported-files/packages/PKG_PDF/SOT-23(RJ)/RJ_5.pdf; ComponentLink4Description: Product URL; ComponentLink4URL: http://www.analog.com/en/mems-sensors/digital-temperature-sensors/tmp06/products/product.html
footprint ADI-RJ-5_N (SOT-23, 5-Leads, Body 2.9x1.6mm, Pitch 0.95mm, IPC Medium Density)
footprint ADI-RJ-5_L (SOT-23, 5-Leads, Body 2.9x1.6mm, Pitch 0.95mm, IPC High Density)
footprint ADI-RJ-5_M (SOT-23, 5-Leads, Body 2.9x1.6mm, Pitch 0.95mm, IPC Low Density)
pins: 1 OUT (oc) "Digital Output. Pulse-width modulated (PWM) output gives a square wave whose ratio of high-to-low period is proportional to temperature.", 2 CONV/IN (in) "Digital Input. In continuously converting and one shot operating modes, a high, low, or float input determines the temperature measurement rate. In daisy-chain operating mode, this pin is the input pin for the PWM signal (See Datasheet)", 3 FUNC (in) "Digital Input. A high, low, or float input on this pin gives three different modes of operation. For details, see the Operating Modes section.", 4 GND (power) "Analog and Digital Ground.", 5 VDD (power) "Positive Supply Voltage, 3.0 V to 5.5 V. Using a decoupling capacitor of 0.1 µF as close as possible to this pin is strongly recommended."

## TMP06BKSZ-500RL7
designator U?
+/-0.5 degrees C Accurate PWM Temperature Sensor, 3 to 5.5 V Supply, Industrial, 5-pin SOT23 (KS-5), Reel; Manufacturer: Analog Devices; PartNumber: TMP06BKSZ-500RL7; DatasheetVersion: Rev. C; PackageVersion: 072809-A, 07/2009; PackageReference: KS-5; PackageDescription: 5-Pin Thin Shrink Small Outline Transistor Package, Body 2 x 1.25 mm, Pitch 0.65 mm; Supplier 1: Digi-Key; Supplier Part Number 1: TMP06BKSZ-500RL7TR-ND; Supplier 2: Digi-Key; Supplier Part Number 2: TMP06BKSZ-500RL7CT-ND; Supplier 3: Digi-Key; Supplier Part Number 3: TMP06BKSZ-500RL7DKR-ND; Supplier 4: Newark; Supplier Part Number 4: 59K9177; Supplier 5: Mouser; Supplier Part Number 5: 584-TMP06BKSZ-500R7; Packing: Reel; Supply Voltage Range: 3 to 5.5 V; Mounting Technology: Surface Mount; Code_JEDEC: MO-203-AA; ComponentLink1Description: Manufacturer URL; ComponentLink1URL: http://www.analog.com/en/index.html; ComponentLink2Description: Datasheet; ComponentLink2URL: http://www.analog.com/static/imported-files/data_sheets/TMP05_06.pdf; ComponentLink3Description: Package Specification; ComponentLink3URL: http://www.analog.com/static/imported-files/packages/PKG_PDF/SC70(KS)/KS_5.pdf; ComponentLink4Description: Product URL; ComponentLink4URL: http://www.analog.com/en/mems-sensors/digital-temperature-sensors/tmp06/products/product.html
footprint ADI-KS-5_N (SOT23, 5-Leads, Body 2x1.25mm, Pitch 0.65mm, IPC Medium Density)
footprint ADI-KS-5_L (SOT23, 5-Leads, Body 2x1.25mm, Pitch 0.65mm, IPC High Density)
footprint ADI-KS-5_M (SOT23, 5-Leads, Body 2x1.25mm, Pitch 0.65mm, IPC Low Density)
pins: 1 OUT (oc) "Digital Output. Pulse-width modulated (PWM) output gives a square wave whose ratio of high-to-low period is proportional to temperature.", 2 CONV/IN (in) "Digital Input. In continuously converting and one shot operating modes, a high, low, or float input determines the temperature measurement rate. In daisy-chain operating mode, this pin is the input pin for the PWM signal (See Datasheet)", 3 FUNC (in) "Digital Input. A high, low, or float input on this pin gives three different modes of operation. For details, see the Operating Modes section.", 4 GND (power) "Analog and Digital Ground.", 5 VDD (power) "Positive Supply Voltage, 3.0 V to 5.5 V. Using a decoupling capacitor of 0.1 µF as close as possible to this pin is strongly recommended."

## TMP06BRTZ-500RL7
designator U?
+/-0.5 degrees C Accurate PWM Temperature Sensor, 3 to 5.5 V Supply, Industrial, 5-pin SOT23 (RJ-5), Reel; Manufacturer: Analog Devices; PartNumber: TMP06BRTZ-500RL7; DatasheetVersion: Rev. C; PackageVersion: 121608-A , 12/2008; PackageReference: RJ-5; PackageDescription: 5-Pin Small Outline Transistor Package, Body 2.9 x 1.6 mm, Pitch 0.95 mm; Supplier 1: Digi-Key; Supplier Part Number 1: TMP06BRTZ-500RL7TR-ND; Supplier 2: Digi-Key; Supplier Part Number 2: TMP06BRTZ-500RL7CT-ND; Supplier 3: Digi-Key; Supplier Part Number 3: TMP06BRTZ-500RL7DKR-ND; Supplier 4: Mouser; Supplier Part Number 4: 584-TMP06BRTZ-500R7; Packing: Reel; Supply Voltage Range: 3 to 5.5 V; Mounting Technology: Surface Mount; Code_JEDEC: MO-178-AA; ComponentLink1Description: Manufacturer URL; ComponentLink1URL: http://www.analog.com/en/index.html; ComponentLink2Description: Datasheet; ComponentLink2URL: http://www.analog.com/static/imported-files/data_sheets/TMP05_06.pdf; ComponentLink3Description: Package Specification; ComponentLink3URL: http://www.analog.com/static/imported-files/packages/PKG_PDF/SOT-23(RJ)/RJ_5.pdf; ComponentLink4Description: Product URL; ComponentLink4URL: http://www.analog.com/en/mems-sensors/digital-temperature-sensors/tmp06/products/product.html
footprint ADI-RJ-5_N (SOT-23, 5-Leads, Body 2.9x1.6mm, Pitch 0.95mm, IPC Medium Density)
footprint ADI-RJ-5_L (SOT-23, 5-Leads, Body 2.9x1.6mm, Pitch 0.95mm, IPC High Density)
footprint ADI-RJ-5_M (SOT-23, 5-Leads, Body 2.9x1.6mm, Pitch 0.95mm, IPC Low Density)
pins: 1 OUT (oc) "Digital Output. Pulse-width modulated (PWM) output gives a square wave whose ratio of high-to-low period is proportional to temperature.", 2 CONV/IN (in) "Digital Input. In continuously converting and one shot operating modes, a high, low, or float input determines the temperature measurement rate. In daisy-chain operating mode, this pin is the input pin for the PWM signal (See Datasheet)", 3 FUNC (in) "Digital Input. A high, low, or float input on this pin gives three different modes of operation. For details, see the Operating Modes section.", 4 GND (power) "Analog and Digital Ground.", 5 VDD (power) "Positive Supply Voltage, 3.0 V to 5.5 V. Using a decoupling capacitor of 0.1 µF as close as possible to this pin is strongly recommended."

## TMP17FS
designator U?
Low Cost, Current Output Temperature Transducer, 4 to 30 V Supply, Industrial, 8-pin SOIC (R-8), Tube; Manufacturer: Analog Devices; PartNumber: TMP17FS; Supply Voltage Range: 4 to 30 V; DatasheetVersion: Rev. A; PackageVersion: 060506-A, 06/2006; PackageReference: R-8; PackageDescription: 8-Pin Standard Small Outline Package, Body 4.9 x 3.9 mm, Pitch 1.27 mm; Supplier 1: Digi-Key; Supplier Part Number 1: TMP17FS-ND; Supplier 2: Mouser; Supplier Part Number 2: 584-TMP17FS; Packing: Tube; Mounting Technology: Surface Mount; Code_JEDEC: MS-012-AA; ComponentLink1Description: Manufacturer URL; ComponentLink1URL: http://www.analog.com/en/index.html; ComponentLink2Description: Datasheet; ComponentLink2URL: http://www.analog.com/static/imported-files/data_sheets/TMP17.pdf; ComponentLink3Description: Package Specification; ComponentLink3URL: http://www.analog.com/static/imported-files/packages/PKG_PDF/SOIC_Narrow%20(R)/R_8.pdf; ComponentLink4Description: Product URL; ComponentLink4URL: http://www.analog.com/en/mems-sensors/digital-temperature-sensors/tmp17/products/product.html
footprint ADI-R-8_N (SOIC, 8-Leads, Body 4.9x3.9mm, Pitch 1.27mm, IPC Medium Density)
footprint ADI-R-8_L (SOIC, 8-Leads, Body 4.9x3.9mm, Pitch 1.27mm, IPC High Density)
footprint ADI-R-8_M (SOIC, 8-Leads, Body 4.9x3.9mm, Pitch 1.27mm, IPC Low Density)
pins: 1 NC, 2 V+, 3 V-, 4 NC, 5 NC, 6 NC, 7 NC, 8 NC

## TMP17FSZ
designator U?
Low Cost, Current Output Temperature Transducer, 4 to 30 V Supply, Industrial, 8-pin SOIC (R-8), Tube; Manufacturer: Analog Devices; PartNumber: TMP17FSZ; Supply Voltage Range: 4 to 30 V; DatasheetVersion: Rev. A; PackageVersion: 060506-A, 06/2006; PackageReference: R-8; PackageDescription: 8-Pin Standard Small Outline Package, Body 4.9 x 3.9 mm, Pitch 1.27 mm; Supplier 1: Digi-Key; Supplier Part Number 1: TMP17FSZ-ND; Supplier 2: Farnell; Supplier Part Number 2: 1439058; Supplier 3: Newark; Supplier Part Number 3: 59K9184; Supplier 4: Mouser; Supplier Part Number 4: 584-TMP17FSZ; Packing: Tube; Mounting Technology: Surface Mount; Code_JEDEC: MS-012-AA; ComponentLink1Description: Manufacturer URL; ComponentLink1URL: http://www.analog.com/en/index.html; ComponentLink2Description: Datasheet; ComponentLink2URL: http://www.analog.com/static/imported-files/data_sheets/TMP17.pdf; ComponentLink3Description: Package Specification; ComponentLink3URL: http://www.analog.com/static/imported-files/packages/PKG_PDF/SOIC_Narrow%20(R)/R_8.pdf; ComponentLink4Description: Product URL; ComponentLink4URL: http://www.analog.com/en/mems-sensors/digital-temperature-sensors/tmp17/products/product.html
footprint ADI-R-8_N (SOIC, 8-Leads, Body 4.9x3.9mm, Pitch 1.27mm, IPC Medium Density)
footprint ADI-R-8_L (SOIC, 8-Leads, Body 4.9x3.9mm, Pitch 1.27mm, IPC High Density)
footprint ADI-R-8_M (SOIC, 8-Leads, Body 4.9x3.9mm, Pitch 1.27mm, IPC Low Density)
pins: 1 NC, 2 V+, 3 V-, 4 NC, 5 NC, 6 NC, 7 NC, 8 NC

## TMP17FSZ-RL
designator U?
Low Cost, Current Output Temperature Transducer, 4 to 30 V Supply, Industrial, 8-pin SOIC (R-8), Reel; Manufacturer: Analog Devices; PartNumber: TMP17FSZ-RL; Supply Voltage Range: 4 to 30 V; DatasheetVersion: Rev. A; PackageVersion: 060506-A, 06/2006; PackageReference: R-8; PackageDescription: 8-Pin Standard Small Outline Package, Body 4.9 x 3.9 mm, Pitch 1.27 mm; Supplier 1: Digi-Key; Supplier Part Number 1: TMP17FSZ-RL-ND; Supplier 2: Mouser; Supplier Part Number 2: 584-TMP17FSZ-R; Packing: Reel; Mounting Technology: Surface Mount; Code_JEDEC: MS-012-AA; ComponentLink1Description: Manufacturer URL; ComponentLink1URL: http://www.analog.com/en/index.html; ComponentLink2Description: Datasheet; ComponentLink2URL: http://www.analog.com/static/imported-files/data_sheets/TMP17.pdf; ComponentLink3Description: Package Specification; ComponentLink3URL: http://www.analog.com/static/imported-files/packages/PKG_PDF/SOIC_Narrow%20(R)/R_8.pdf; ComponentLink4Description: Product URL; ComponentLink4URL: http://www.analog.com/en/mems-sensors/digital-temperature-sensors/tmp17/products/product.html
footprint ADI-R-8_N (SOIC, 8-Leads, Body 4.9x3.9mm, Pitch 1.27mm, IPC Medium Density)
footprint ADI-R-8_L (SOIC, 8-Leads, Body 4.9x3.9mm, Pitch 1.27mm, IPC High Density)
footprint ADI-R-8_M (SOIC, 8-Leads, Body 4.9x3.9mm, Pitch 1.27mm, IPC Low Density)
pins: 1 NC, 2 V+, 3 V-, 4 NC, 5 NC, 6 NC, 7 NC, 8 NC

## TMP17GS
designator U?
Low Cost, Current Output Temperature Transducer, 4 to 30 V Supply, Industrial, 8-pin SOIC (R-8), Tube; Manufacturer: Analog Devices; PartNumber: TMP17GS; Supply Voltage Range: 4 to 30 V; DatasheetVersion: Rev. A; PackageVersion: 060506-A, 06/2006; PackageReference: R-8; PackageDescription: 8-Pin Standard Small Outline Package, Body 4.9 x 3.9 mm, Pitch 1.27 mm; Supplier 1: Digi-Key; Supplier Part Number 1: TMP17GS-ND; Supplier 2: Mouser; Supplier Part Number 2: 584-TMP17GS; Packing: Tube; Mounting Technology: Surface Mount; Code_JEDEC: MS-012-AA; ComponentLink1Description: Manufacturer URL; ComponentLink1URL: http://www.analog.com/en/index.html; ComponentLink2Description: Datasheet; ComponentLink2URL: http://www.analog.com/static/imported-files/data_sheets/TMP17.pdf; ComponentLink3Description: Package Specification; ComponentLink3URL: http://www.analog.com/static/imported-files/packages/PKG_PDF/SOIC_Narrow%20(R)/R_8.pdf; ComponentLink4Description: Product URL; ComponentLink4URL: http://www.analog.com/en/mems-sensors/digital-temperature-sensors/tmp17/products/product.html
footprint ADI-R-8_N (SOIC, 8-Leads, Body 4.9x3.9mm, Pitch 1.27mm, IPC Medium Density)
footprint ADI-R-8_L (SOIC, 8-Leads, Body 4.9x3.9mm, Pitch 1.27mm, IPC High Density)
footprint ADI-R-8_M (SOIC, 8-Leads, Body 4.9x3.9mm, Pitch 1.27mm, IPC Low Density)
pins: 1 NC, 2 V+, 3 V-, 4 NC, 5 NC, 6 NC, 7 NC, 8 NC

## TMP17GSZ
designator U?
Low Cost, Current Output Temperature Transducer, 4 to 30 V Supply, Industrial, 8-pin SOIC (R-8), Tube; Manufacturer: Analog Devices; PartNumber: TMP17GSZ; Supply Voltage Range: 4 to 30 V; DatasheetVersion: Rev. A; PackageVersion: 060506-A, 06/2006; PackageReference: R-8; PackageDescription: 8-Pin Standard Small Outline Package, Body 4.9 x 3.9 mm, Pitch 1.27 mm; Supplier 1: Digi-Key; Supplier Part Number 1: TMP17GSZ-ND; Supplier 2: Newark; Supplier Part Number 2: 59K9186; Supplier 3: Mouser; Supplier Part Number 3: 584-TMP17GSZ; Packing: Tube; Mounting Technology: Surface Mount; Code_JEDEC: MS-012-AA; ComponentLink1Description: Manufacturer URL; ComponentLink1URL: http://www.analog.com/en/index.html; ComponentLink2Description: Datasheet; ComponentLink2URL: http://www.analog.com/static/imported-files/data_sheets/TMP17.pdf; ComponentLink3Description: Package Specification; ComponentLink3URL: http://www.analog.com/static/imported-files/packages/PKG_PDF/SOIC_Narrow%20(R)/R_8.pdf; ComponentLink4Description: Product URL; ComponentLink4URL: http://www.analog.com/en/mems-sensors/digital-temperature-sensors/tmp17/products/product.html
footprint ADI-R-8_N (SOIC, 8-Leads, Body 4.9x3.9mm, Pitch 1.27mm, IPC Medium Density)
footprint ADI-R-8_L (SOIC, 8-Leads, Body 4.9x3.9mm, Pitch 1.27mm, IPC High Density)
footprint ADI-R-8_M (SOIC, 8-Leads, Body 4.9x3.9mm, Pitch 1.27mm, IPC Low Density)
pins: 1 NC, 2 V+, 3 V-, 4 NC, 5 NC, 6 NC, 7 NC, 8 NC

## TMP17GSZ-RL
designator U?
Low Cost, Current Output Temperature Transducer, 4 to 30 V Supply, Industrial, 8-pin SOIC (R-8), Reel; Manufacturer: Analog Devices; PartNumber: TMP17GSZ-RL; Supply Voltage Range: 4 to 30 V; DatasheetVersion: Rev. A; PackageVersion: 060506-A, 06/2006; PackageReference: R-8; PackageDescription: 8-Pin Standard Small Outline Package, Body 4.9 x 3.9 mm, Pitch 1.27 mm; Supplier 1: Digi-Key; Supplier Part Number 1: TMP17GSZ-RL-ND; Supplier 2: Mouser; Supplier Part Number 2: 584-TMP17GSZ-R; Packing: Reel; Mounting Technology: Surface Mount; Code_JEDEC: MS-012-AA; ComponentLink1Description: Manufacturer URL; ComponentLink1URL: http://www.analog.com/en/index.html; ComponentLink2Description: Datasheet; ComponentLink2URL: http://www.analog.com/static/imported-files/data_sheets/TMP17.pdf; ComponentLink3Description: Package Specification; ComponentLink3URL: http://www.analog.com/static/imported-files/packages/PKG_PDF/SOIC_Narrow%20(R)/R_8.pdf; ComponentLink4Description: Product URL; ComponentLink4URL: http://www.analog.com/en/mems-sensors/digital-temperature-sensors/tmp17/products/product.html
footprint ADI-R-8_N (SOIC, 8-Leads, Body 4.9x3.9mm, Pitch 1.27mm, IPC Medium Density)
footprint ADI-R-8_L (SOIC, 8-Leads, Body 4.9x3.9mm, Pitch 1.27mm, IPC High Density)
footprint ADI-R-8_M (SOIC, 8-Leads, Body 4.9x3.9mm, Pitch 1.27mm, IPC Low Density)
pins: 1 NC, 2 V+, 3 V-, 4 NC, 5 NC, 6 NC, 7 NC, 8 NC

## TMP35GRTZ-REEL7
designator U?
Voltage Output Temperature Sensor, 2.7 to 5.5 V Supply, Industrial, 5-pin SOT23 (RJ-5), Reel; Manufacturer: Analog Devices; PartNumber: TMP35GRTZ-REEL7; DatasheetVersion: Rev. F; PackageVersion: 121608-A , 12/2008; PackageReference: RJ-5; PackageDescription: 5-Pin Small Outline Transistor Package, Body 2.9 x 1.6 mm, Pitch 0.95 mm; Supplier 1: Digi-Key; Supplier Part Number 1: TMP35GRTZ-REEL7TR-ND; Supplier 2: Digi-Key; Supplier Part Number 2: TMP35GRTZ-REEL7CT-ND; Supplier 3: Digi-Key; Supplier Part Number 3: TMP35GRTZ-REEL7DKR-ND; Supplier 4: Farnell; Supplier Part Number 4: 2312926; Supplier 5: Newark; Supplier Part Number 5: 59K9190; Supplier 6: Newark; Supplier Part Number 6: 67W2764; Supplier 7: Mouser; Supplier Part Number 7: 584-TMP35GRTZ-R7; Packing: Reel; Supply Voltage Range: 2.7 to 5.5 V; Mounting Technology: Surface Mount; Code_JEDEC: MO-178-AA; ComponentLink1Description: Manufacturer URL; ComponentLink1URL: http://www.analog.com/en/index.html; ComponentLink2Description: Datasheet; ComponentLink2URL: http://www.analog.com/static/imported-files/data_sheets/TMP35_36_37.pdf; ComponentLink3Description: Package Specification; ComponentLink3URL: http://www.analog.com/static/imported-files/packages/PKG_PDF/SOT-23(RJ)/RJ_5.pdf; ComponentLink4Description: Product URL; ComponentLink4URL: http://www.analog.com/en/mems-sensors/digital-temperature-sensors/tmp35/products/product.html
footprint ADI-RJ-5_N (SOT-23, 5-Leads, Body 2.9x1.6mm, Pitch 0.95mm, IPC Medium Density)
footprint ADI-RJ-5_L (SOT-23, 5-Leads, Body 2.9x1.6mm, Pitch 0.95mm, IPC High Density)
footprint ADI-RJ-5_M (SOT-23, 5-Leads, Body 2.9x1.6mm, Pitch 0.95mm, IPC Low Density)
pins: 1 VOUT (hiz), 2 +VS (power), 3 NC, 4 ~{SHUTDOWN} (in), 5 GND (power)

## TMP35GT9
designator U?
Voltage Output Temperature Sensor, 2.7 to 5.5 V Supply, Industrial, 3-pin TO92 (T-3), Tray; Manufacturer: Analog Devices; PartNumber: TMP35GT9; DatasheetVersion: Rev. F; PackageVersion: 042208-A, 04/2008; PackageReference: T-3; PackageDescription: 3-Pin Plastic Header-Style Package, 1.27 mm Pitch; Supplier 1: Digi-Key; Supplier Part Number 1: TMP35GT9-ND; Supplier 2: Mouser; Supplier Part Number 2: 584-TMP35GT9; Packing: Tray; Supply Voltage Range: 2.7 to 5.5 V; Mounting Technology: Through Hole; Code_JEDEC: TO-226-AA; ComponentLink1Description: Manufacturer URL; ComponentLink1URL: http://www.analog.com/en/index.html; ComponentLink2Description: Datasheet; ComponentLink2URL: http://www.analog.com/static/imported-files/data_sheets/TMP35_36_37.pdf; ComponentLink3Description: Package Specification; ComponentLink3URL: http://www.analog.com/static/imported-files/packages/PKG_PDF/TO-92(T)/T_3.pdf; ComponentLink4Description: Product URL; ComponentLink4URL: http://www.analog.com/en/mems-sensors/digital-temperature-sensors/tmp35/products/product.html
footprint ADI-T-3 (TO, Flat Index; 3 In-Line, Axial Leads; Body Dia. 5.1mm; Leads 0.48 x 0.48 mm (max))
pins: 1 +VS (power), 2 VOUT (out), 3 GND (power)

## TMP35GT9Z
designator U?
Voltage Output Temperature Sensor, 2.7 to 5.5 V Supply, Industrial, 3-pin TO92 (T-3), Tray; Manufacturer: Analog Devices; PartNumber: TMP35GT9Z; DatasheetVersion: Rev. F; PackageVersion: 042208-A, 04/2008; PackageReference: T-3; PackageDescription: 3-Pin Plastic Header-Style Package, 1.27 mm Pitch; Supplier 1: Digi-Key; Supplier Part Number 1: TMP35GT9Z-ND; Supplier 2: Farnell; Supplier Part Number 2: 1699536; Supplier 3: Newark; Supplier Part Number 3: 13M3231; Supplier 4: Mouser; Supplier Part Number 4: 584-TMP35GT9Z; Packing: Tray; Supply Voltage Range: 2.7 to 5.5 V; Mounting Technology: Through Hole; Code_JEDEC: TO-226-AA; ComponentLink1Description: Manufacturer URL; ComponentLink1URL: http://www.analog.com/en/index.html; ComponentLink2Description: Datasheet; ComponentLink2URL: http://www.analog.com/static/imported-files/data_sheets/TMP35_36_37.pdf; ComponentLink3Description: Package Specification; ComponentLink3URL: http://www.analog.com/static/imported-files/packages/PKG_PDF/TO-92(T)/T_3.pdf; ComponentLink4Description: Product URL; ComponentLink4URL: http://www.analog.com/en/mems-sensors/digital-temperature-sensors/tmp35/products/product.html
footprint ADI-T-3 (TO, Flat Index; 3 In-Line, Axial Leads; Body Dia. 5.1mm; Leads 0.48 x 0.48 mm (max))
pins: 1 +VS (power), 2 VOUT (out), 3 GND (power)